# Altium schematic symbol library CAP_100nF_805.SchLib: 1 symbol
Pins are listed as number, name and electrical type; pins without a type are passive.

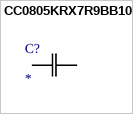
[diagram p0: symbol CC0805KRX7R9BB104]

## CC0805KRX7R9BB104
designator C?
No Description Available; Mfr_Name: Yageo
footprint CC0805N_YAG
pins: 1, 2